# Altium schematic symbol library Arduino.SchLib: 1 symbol
Pins are listed as number, name and electrical type; pins without a type are passive.

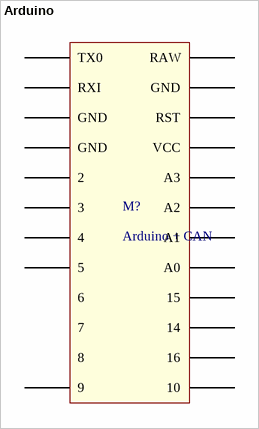
[diagram p0: symbol Arduino]

## Arduino
designator M?, comment Arduino + CAN
Arduino Pro Micro + CAN Shield
footprint PCBComponent_1
pins: 1 TX0, 2 RXI, 3 GND, 4 GND, 5 2, 6 3, 7 4, 8 5, 9 6, 10 7, 11 8, 12 9, 13 10, 14 16, 15 14, 16 15, 17 A0, 18 A1, 19 A2, 20 A3, 21 VCC, 22 RST, 23 GND, 24 RAW